# Altium footprint library SBTech_IcarusBoard_1V0.PcbLib: 30 footprints (part 1 of 2)
Each footprint in its own frame and in the unit in brackets; x right, y up, seen from the top. Pads: shape width x height; smd on the part's side, far side on the other; paste and mask are expansions set on the pad; w line width, h text height; cw(c..) or ccw(c..) is an arc to the next point about the centre after c.
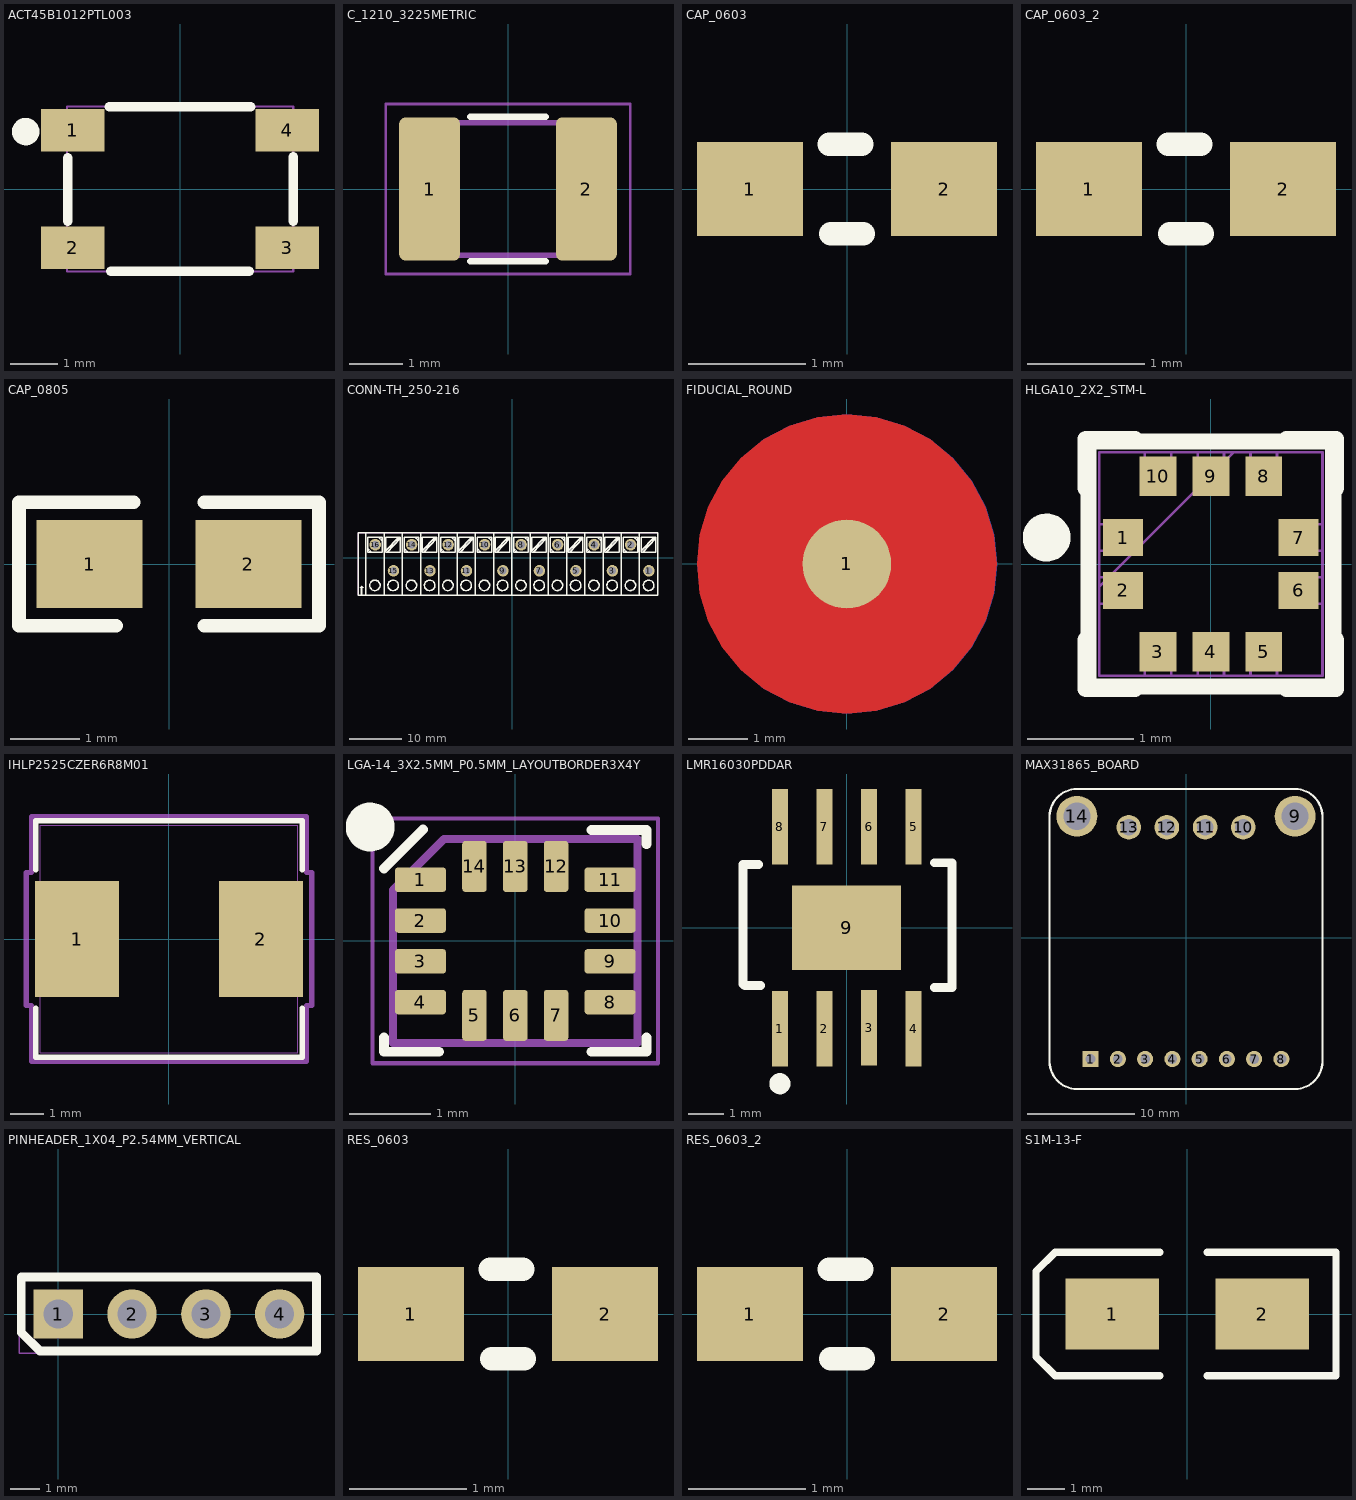
[diagram p0: the footprints below, top view; thin cyan lines are the x and y axes]

## ACT45B1012PTL003 [mm]
pads (4):
  rect 1.35x0.9 smd mask+0: 1(-2.275,1.25) 2(-2.275,-1.25) 3(2.275,-1.25) 4(2.275,1.25)
Top Overlay:
  circle w0.3: c-3.277,1.219 r0.141
  lines w0.2: -2.388,-0.686 -2.388,0.66 ; -1.499,1.75 1.499,1.75 ; -1.473,-1.75 1.473,-1.75 ; 2.4,-0.686 2.4,0.686
Mechanical 12:
  lines w0.05: -2.4,-1.75 -2.4,1.75 2.4,1.75 2.4,-1.75 -2.4,-1.75

## C_1210_3225METRIC [mm]
pads (2):
  rrect22% 1.15x2.7 smd mask+0: 1(-1.475,0) 2(1.475,0)
Top Overlay:
  lines w0.12: -0.711,-1.36 0.711,-1.36 ; -0.711,1.36 0.711,1.36
Mechanical 10:
  lines w0.1: -1.6,-1.25 -1.6,1.25 1.6,1.25 1.6,-1.25 -1.6,-1.25
Mechanical 12:
  lines w0.05: -2.3,-1.6 2.3,-1.6 2.3,1.6 -2.3,1.6 -2.3,-1.6

## CAP_0603 [mm]
pads (2):
  rect 0.9x0.8 smd: 1(-0.826,0) 2(0.826,0)
Top Overlay:
  lines w0.2: -0.152,0.381 0.127,0.381 ; -0.14,-0.381 0.14,-0.381
3D body "CAP_0603.STEP": height 0.8, standoff 0, extent -0.787,-0.432 0.813,0.438

## CAP_0603_2 [mm]
pads (2):
  rect 0.9x0.8 smd: 1(-0.826,0) 2(0.826,0)
Top Overlay:
  lines w0.2: -0.152,0.381 0.127,0.381 ; -0.14,-0.381 0.14,-0.381
3D body "CAP_0603.STEP": height 0.8, standoff 0, extent -0.787,-0.432 0.813,0.438

## CAP_0805 [mil]
pads (2):
  rect 60x50 smd: 1(-45,0) 2(45,0)
Top Overlay:
  lines w7.87: -30,-35 -85,-35 -85,35 -20,35 ; 20,-35 85,-35 85,35 20,35
3D body "0805.stp": height 49.21, standoff 0, extent -40.08,-24.61 38.66,24.61

## CONN-TH_250-216 [mm]
pads (16):
  round 2.2 hole 1.4: 1(26.25,-2.5) 3(19.25,-2.5) 5(12.25,-2.5) 7(5.25,-2.5) 9(-1.75,-2.5) 11(-8.75,-2.5) 15(-22.75,-2.5)
  round 2.2 hole 1.4 copper offset 0,0: 2(22.75,2.5) 4(15.75,2.5) 6(8.75,2.5) 8(1.75,2.5) 10(-5.25,2.5) 12(-12.25,2.5) 13(-15.75,-2.5) 14(-19.25,2.5) 16(-26.25,2.5)
Top Overlay:
  drawing of 216 lines, arcs and shapes, not listed
Mechanical 15:
  region: -19.625,2.7 -18.875,2.7 -18.875,2.3 -19.625,2.3
  region: -16.525,-2.3 -15.775,-2.3 -15.775,-2.7 -16.525,-2.7
  region: -12.625,2.7 -11.875,2.7 -11.875,2.3 -12.625,2.3
  region: -9.125,-2.3 -8.375,-2.3 -8.375,-2.7 -9.125,-2.7
  region: -23.125,-2.3 -22.375,-2.3 -22.375,-2.7 -23.125,-2.7
  region: -26.625,2.7 -25.875,2.7 -25.875,2.3 -26.625,2.3
  region: -5.625,2.7 -4.875,2.7 -4.875,2.3 -5.625,2.3
  region: -2.125,-2.3 -1.375,-2.3 -1.375,-2.7 -2.125,-2.7
  region: 1.375,2.7 2.125,2.7 2.125,2.3 1.375,2.3
  region: 4.875,-2.3 5.625,-2.3 5.625,-2.7 4.875,-2.7
  region: 25.875,-2.3 26.625,-2.3 26.625,-2.7 25.875,-2.7
  region: 22.375,2.7 23.125,2.7 23.125,2.3 22.375,2.3
  region: 18.875,-2.3 19.625,-2.3 19.625,-2.7 18.875,-2.7
  region: 15.375,2.7 16.125,2.7 16.125,2.3 15.375,2.3
  region: 11.875,-2.3 12.625,-2.3 12.625,-2.7 11.875,-2.7
  region: 8.375,2.7 9.125,2.7 9.125,2.3 8.375,2.3
  lines w0.051: 27.998,-7.2 -29.502,-7.2 -29.502,4.8 27.998,4.8

## FIDUCIAL_ROUND [mm]
height 3
pads (1):
  round 1.5 all layers, no hole mask+1.8: 1(0,0)
Top Layer:
  pour cut-out: 0,-2.533 -0.494,-2.484 -0.969,-2.34 -1.407,-2.106 -1.791,-1.791 -2.106,-1.407 -2.34,-0.969 -2.484,-0.494 -2.533,0 -2.484,0.494 -2.34,0.969 -2.106,1.407 -1.791,1.791 -1.407,2.106 -0.969,2.34 -0.494,2.484 0,2.533 0.494,2.484 0.969,2.34 1.407,2.106 1.791,1.791 2.106,1.407 2.34,0.969 2.484,0.494 2.533,0 2.484,-0.494 2.34,-0.969 2.106,-1.407 1.791,-1.791 1.407,-2.106 0.969,-2.34 0.494,-2.484
Bottom Layer:
  pour cut-out: 0.005,-2.534 -0.489,-2.485 -0.965,-2.341 -1.402,-2.107 -1.786,-1.792 -2.101,-1.408 -2.335,-0.97 -2.48,-0.495 -2.528,-0.001 -2.48,0.494 -2.335,0.969 -2.101,1.407 -1.786,1.79 -1.402,2.106 -0.965,2.34 -0.489,2.484 0.005,2.532 0.499,2.484 0.974,2.34 1.412,2.106 1.796,1.79 2.111,1.407 2.345,0.969 2.489,0.494 2.538,-0.001 2.489,-0.495 2.345,-0.97 2.111,-1.408 1.796,-1.792 1.412,-2.107 0.974,-2.341 0.499,-2.485

## HLGA10_2X2_STM-L [mm]
pads (10):
  rect 0.377x0.348 smd mask+0: 1(-0.828,0.25) 2(-0.828,-0.25) 6(0.828,-0.25) 7(0.828,0.25)
  rect 0.348x0.377 smd mask+0: 3(-0.5,-0.828) 4(0,-0.828) 5(0.5,-0.828) 8(0.5,0.828) 9(0,0.828) 10(-0.5,0.828)
Top Overlay:
  circle w0.25: c-1.55,0.25 r0.1
  lines w0.152: -1.181,-0.715 -1.181,-1.181 -0.715,-1.181 ; -1.181,0.715 -1.181,1.181 -0.715,1.181 ; 0.715,-1.181 1.181,-1.181 1.181,-0.715 ; 0.715,1.181 1.181,1.181 1.181,0.715 ; -1.156,-1.156 -1.156,-0.452 -1.156,0.452 -1.156,1.156 -0.702,1.156 0.702,1.156 1.156,1.156 1.156,0.452 1.156,-0.452 1.156,-1.156 0.702,-1.156 -0.702,-1.156 -1.156,-1.156
Mechanical 10:
  lines w0.025: -1.054,-0.216 0.216,1.054 ; -1.054,-1.054 1.054,-1.054 1.054,1.054 -1.054,1.054 -1.054,-1.054 ; -1.054,-0.375 -1.054,-0.125 -0.965,-0.125 -0.965,-0.375 -1.054,-0.375 ; -1.054,0.125 -1.054,0.375 -0.965,0.375 -0.965,0.125 -1.054,0.125 ; -0.625,-1.054 -0.625,-0.965 -0.375,-0.965 -0.375,-1.054 -0.625,-1.054 ; -0.625,0.965 -0.625,1.054 -0.375,1.054 -0.375,0.965 -0.625,0.965 ; -0.125,-1.054 -0.125,-0.965 0.125,-0.965 0.125,-1.054 -0.125,-1.054 ; -0.125,0.965 0.125,0.965 0.125,1.054 -0.125,1.054 -0.125,0.965 ; 0.375,-1.054 0.625,-1.054 0.625,-0.965 0.375,-0.965 0.375,-1.054 ; 0.375,0.965 0.625,0.965 0.625,1.054 0.375,1.054 0.375,0.965 ; 0.965,-0.375 1.054,-0.375 1.054,-0.125 0.965,-0.125 0.965,-0.375 ; 0.965,0.125 1.054,0.125 1.054,0.375 0.965,0.375 0.965,0.125

## IHLP2525CZER6R8M01 [mil]
height 118.11
pads (2):
  rect 98x135 smd: 1(-107,0) 2(107,0)
Top Overlay:
  lines w6: -155,-80.6 -155,-137.5 155,-137.5 155,-80.6 ; -155,80.6 -155,137.5 155,137.5 155,80.6
Mechanical 13:
  lines w1: -150,-132.5 -150,132.5 150,132.5 150,-132.5 -150,-132.5
Mechanical 15:
  lines w6: -166,-77.5 -160,-77.5 -160,-142.5 160,-142.5 160,-77.5 166,-77.5 166,77.5 160,77.5 160,142.5 -160,142.5 -160,77.5 -166,77.5 -166,-77.5
3D body "IND25X25CZ.step": height 117.99, standoff 0, extent -150,-132.52 150,132.52

## LGA-14_3X2.5MM_P0.5MM_LAYOUTBORDER3X4Y [mm]
pads (14):
  rrect25% 0.625x0.3 smd mask+0: 1(-1.162,0.75) 2(-1.162,0.25) 3(-1.162,-0.25) 4(-1.162,-0.75) 8(1.162,-0.75) 9(1.162,-0.25) 10(1.162,0.25) 11(1.162,0.75)
  rrect25% 0.3x0.625 smd mask+0: 5(-0.5,-0.913) 6(0,-0.913) 7(0.5,-0.913) 12(0.5,0.913) 13(0,0.913) 14(-0.5,0.913)
Top Overlay:
  circle w0.3: c-1.778,1.397 r0.15
  lines w0.12: -1.61,-1.185 -1.61,-1.36 -0.935,-1.36 ; -1.61,0.889 -1.133,1.366 ; 0.935,-1.36 1.61,-1.36 1.61,-1.185 ; 0.935,1.36 1.61,1.36 1.61,1.185
Mechanical 10:
  lines w0.1: -1.5,-1.25 1.5,-1.25 1.5,1.25 -0.875,1.25 -1.5,0.625 -1.5,-1.25
Mechanical 12:
  lines w0.05: -1.75,-1.5 1.75,-1.5 1.75,1.5 -1.75,1.5 -1.75,-1.5

## LMR16030PDDAR [mm]
height 3
pads (9):
  rect 0.45x2.15 smd: 1(-1.905,-2.875) 2(-0.635,-2.875) 3(0.635,-2.85) 4(1.905,-2.875) 5(1.905,2.875) 6(0.635,2.875) 7(-0.635,2.875) 8(-1.905,2.875)
  rect 3.1x2.4 smd: 9(-0.005,0)
Top Overlay:
  circle w0.3: c-1.905,-4.445 r0.15
  lines w0.254: -2.505,1.8 -2.955,1.8 -2.955,-1.6 -2.905,-1.65 -2.455,-1.65 ; 2.495,-1.7 2.995,-1.7 2.995,-0.719 2.995,0.844 2.995,1.85 2.495,1.85
3D body "LMR16030PDDAR.STEP": height 1.7, standoff 0, extent -2.455,-3 2.445,3

## MAX31865_BOARD [mil] "Connector; Header; 8 Position"
height 393.7
pads (14):
  rect 59.06x59.06 hole 35.43: 1(-350,-445)
  round 59.06 hole 35.43: 2(-250,-445) 3(-150,-445) 4(-50,-445) 5(50,-445) 6(150,-445) 7(250,-445) 8(350,-445)
  round 150 hole 100: 9(400,445) 14(-400,445)
  round 90 hole 60: 10(210,405) 11(70,405) 12(-70,405) 13(-210,405)
Top Overlay:
  lines w7.87: -500,-455 ccw(c-400,-455) -400,-555 400,-555 ccw(c400,-455) 500,-455 500,445 ccw(c400,445) 400,545 -400,545 ccw(c-400,445) -500,445 -500,-455

## PINHEADER_1X04_P2.54MM_VERTICAL [mm]
pads (4):
  rect 1.7x1.7 hole 1 paste-2539.97 mask+0: 1(0,0)
  rrect100% 1.7x1.7 hole 1 paste-2539.97 mask+0: 2(2.54,0) 3(5.08,0) 4(7.62,0)
Top Overlay:
  lines w0.3: -1.27,-0.635 -1.27,1.27 8.89,1.27 8.89,-1.27 -0.635,-1.27 -1.27,-0.635
Mechanical 12:
  lines w0.05: -1.35,-1.35 8.975,-1.35 8.975,1.35 -1.35,1.35 -1.35,-1.35

## RES_0603 [mm]
height 3
pads (2):
  rect 0.9x0.8 smd: 1(-0.826,0) 2(0.826,0)
Top Overlay:
  lines w0.2: -0.152,0.381 0.127,0.381 ; -0.14,-0.381 0.14,-0.381
3D body "RES_0603.step": height 0.5, standoff -0.01, extent -0.813,-0.429 0.787,0.431

## RES_0603_2 [mm]
pads (2):
  rect 0.9x0.8 smd: 1(-0.826,0) 2(0.826,0)
Top Overlay:
  lines w0.2: -0.152,0.381 0.127,0.381 ; -0.14,-0.381 0.14,-0.381
3D body "RES_0603.step": height 0.5, standoff -0.01, extent -0.813,-0.429 0.787,0.431

## S1M-13-F [mm]
pads (2):
  rect 2.5x1.9 smd: 1(-2,0) 2(2,0)
Top Overlay:
  lines w0.2: -0.73,-1.651 -3.524,-1.651 -4.032,-1.143 -4.032,1.143 -3.524,1.651 -0.73,1.651 ; 0.54,-1.651 3.969,-1.651 3.969,-1.016 3.969,1.651 0.54,1.651
3D body "S1M-13-F.STEP": height 2.4, standoff 0, extent -2.672,-1.327 2.523,1.278